# Altium footprint library CONN - XT30PW-M.PcbLib: 1 footprints
Each footprint in its own frame and in the unit in brackets; x right, y up, seen from the top. Pads: shape width x height; smd on the part's side, far side on the other; paste and mask are expansions set on the pad; w line width, h text height; cw(c..) or ccw(c..) is an arc to the next point about the centre after c.
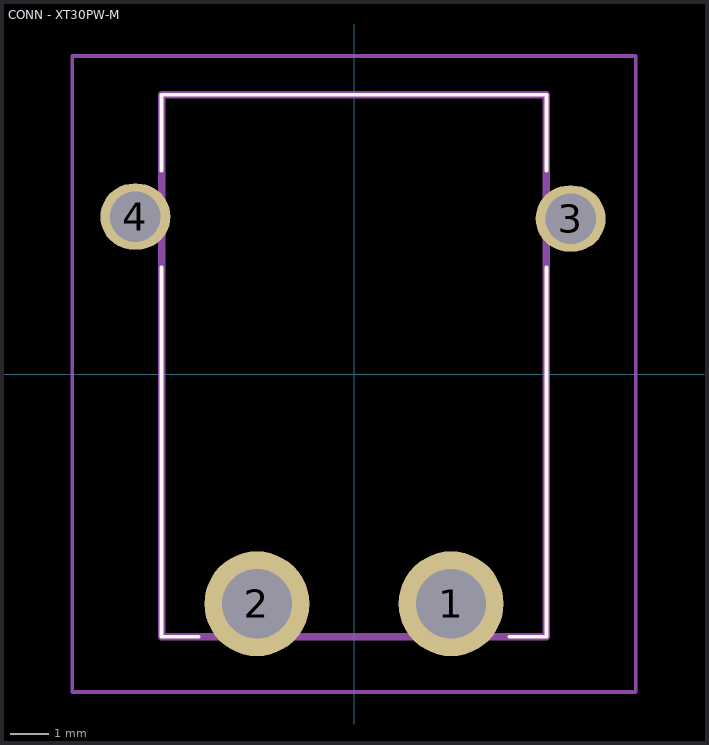
[diagram p0: the footprint, top view; thin cyan lines are the x and y axes]

## CONN - XT30PW-M [mm]
pads (4):
  round 2.7 hole 1.8: 1(2.5,-5.912) 2(-2.5,-5.912)
  oval 1.8x1.7 hole 1.3: 3(5.575,4) 4(-5.625,4.05)
Top Overlay:
  lines w0.1: -4.95,2.737 -4.95,-6.762 -4,-6.762 ; -4.95,5.237 -4.95,7.187 4.95,7.187 4.95,5.237 ; 4,-6.762 4.95,-6.762 4.95,2.737
Mechanical 15:
  lines w0.2: -4.95,-6.762 -4.95,7.187 4.95,7.187 4.95,-6.762 -4.95,-6.762
Mechanical 20:
  lines w0.1: -7.25,-8.188 -7.25,8.188 7.25,8.188 7.25,-8.188 -7.25,-8.188
3D body "XT30PW-M.stp": height 5.15, standoff -2.35, extent -6.675,-6.825 6.625,7.125